# Altium footprint library soil_moisture_PCB.PcbLib: 1 footprints
Each footprint in its own frame and in the unit in brackets; x right, y up, seen from the top. Pads: shape width x height; smd on the part's side, far side on the other; paste and mask are expansions set on the pad; w line width, h text height; cw(c..) or ccw(c..) is an arc to the next point about the centre after c.
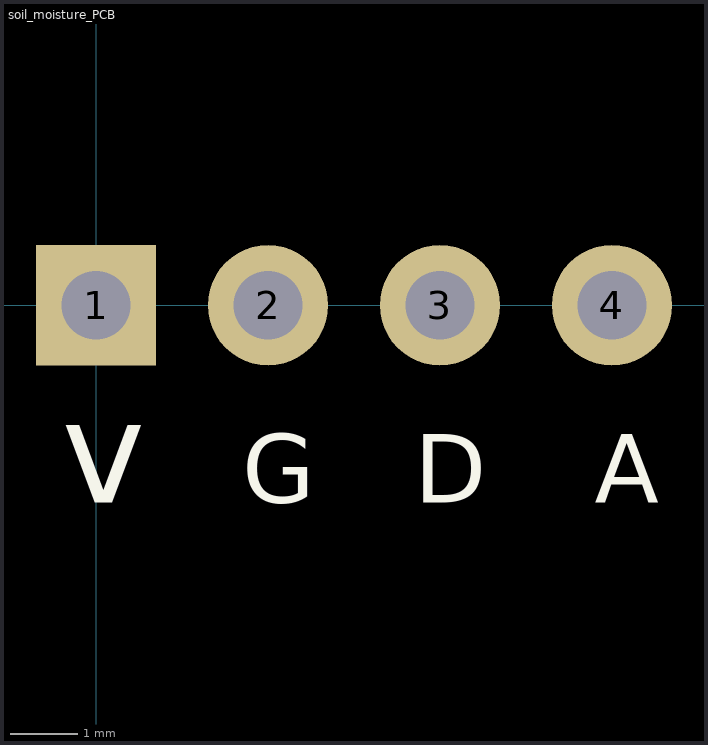
[diagram p0: the footprint, top view; thin cyan lines are the x and y axes]

## soil_moisture_PCB [mil]
pads (4):
  rect 70x70 hole 40: 1(0,0)
  round 70 hole 40: 2(100,0) 3(200,0) 4(300,0)
Top Overlay:
  text "A" at 290,-115 h40
  text "D" at 185,-115 h40
  text "G" at 85,-115 h40
  text "v" at -20,-115 h60
3D body: height 250.33, standoff 200.07, extent -145,-122.5 445,1062.5
3D body "2.54X2_pinheader_male.SLDPRT": height 326.77, standoff -224.41, extent -49.99,-49.99 150.01,50.01
3D body "2.54X2_pinheader_male.SLDPRT": height 326.77, standoff -224.41, extent 150.01,-49.99 350.01,50.01